# Altium footprint library 1150R CROSS ANTENNA.PcbLib: 1 footprints
Each footprint in its own frame and in the unit in brackets; x right, y up, seen from the top. Pads: shape width x height; smd on the part's side, far side on the other; paste and mask are expansions set on the pad; w line width, h text height; cw(c..) or ccw(c..) is an arc to the next point about the centre after c.
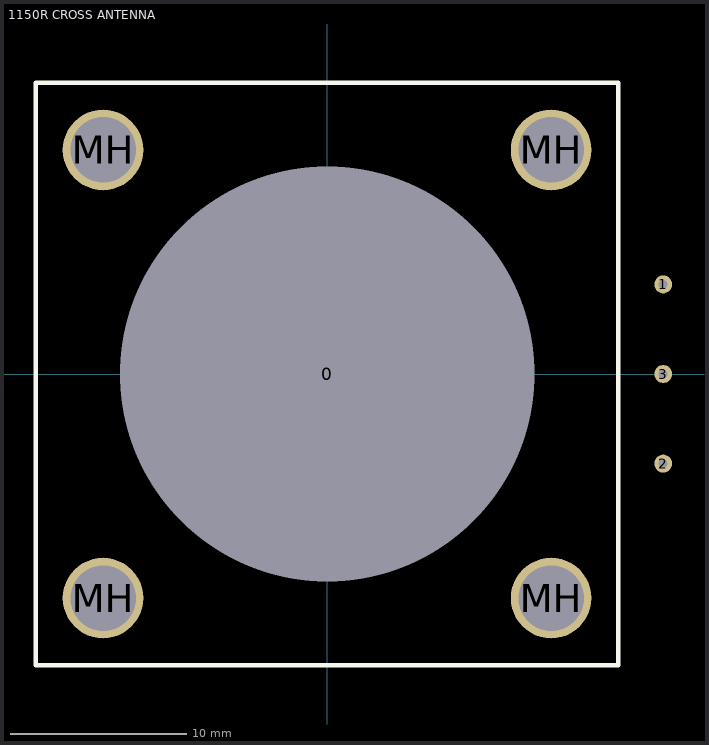
[diagram p0: the footprint, top view; thin cyan lines are the x and y axes]

## 1150R CROSS ANTENNA [mil]
height 390
pads (8):
  round 50 hole 925: 0(0,0)
  round 40 hole 20: 1(750,200) 2(750,-200) 3(750,0)
  round 180 hole 146: MH(-500,-500) MH(-500,500) MH(500,-500) MH(500,500)
TopOverlay:
  lines w10: -650,-650 650,-650 650,650 -650,650 -650,-650
3D body: height 1665, standoff -1585, extent -650,-610 650,690